# Altium schematic symbol library EMDC_Diodes.SchLib: 5 symbols
Pins are listed as number, name and electrical type; pins without a type are passive.

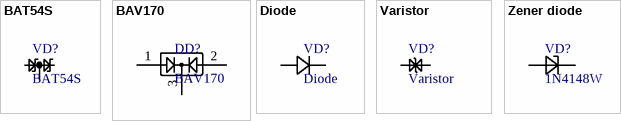
[diagram p0: symbols BAT54S to Zener diode]

## BAT54S
designator VD?
2x schottky barrier
footprint SOT-23-3
pins: 1 K, 2 A, 3 (power)

## BAV170
designator DD?
Dual Diode Common Cathode SOT23
footprint SOT-23-3
pins: 1 VDD, 2 VDD, 3

## Diode
designator VD?
SMD diode
footprint D0805
footprint D0805M
footprint D0603
footprint D0603M
footprint D0402
footprint D0402M
footprint D1206
footprint D1206M
footprint SOD-323
footprint SOD-123 (SOD-123 diode package)
pins: 1 K, 2 A

## Varistor
designator VD?
footprint 0805
footprint 0603
footprint 0603m
footprint 0805M
pins: 1, 2

## Zener diode
designator VD?, comment 1N4148W
SMD Zener diode
footprint D0805
footprint D0805M
footprint D0603
footprint D0603M
footprint D0402
footprint D0402M
footprint D1206
footprint D1206M
pins: 1 K, 2 A